# Altium schematic symbol library Inductors-Wirewound.SchLib: 5 symbols
Pins are listed as number, name and electrical type; pins without a type are passive.

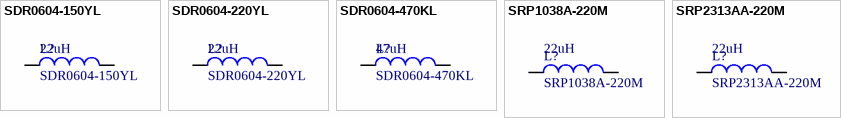
[diagram p0: symbols SDR0604-150YL to SRP2313AA-220M]

## SDR0604-150YL
designator L?  value 22uH
15uH 30% 1.3A 0604; Manufacturer: Bourns; PartNumber: SDR0604-150YL; PackageReference: SDR0604; Mounting Technology: Surface Mount; Current: 1.3A
simulation model INDUCTOR (Inductor)
signal-integrity model Inductor
footprint SDR0604
pins: 1, 2

## SDR0604-220YL
designator L?  value 22uH
22uH 30% 1.1A 0604; Manufacturer: Bourns; PartNumber: SDR0604-220YL; PackageReference: SDR0604; Mounting Technology: Surface Mount; Current: 1.1A
simulation model INDUCTOR (Inductor)
signal-integrity model Inductor
footprint SDR0604
pins: 1, 2

## SDR0604-470KL
designator L?  value 47uH
47uH 10% 0.72A 0604; Manufacturer: Bourns; PartNumber: SDR0604-470KL; PackageReference: SDR0604; Mounting Technology: Surface Mount; Current: 0.72A
simulation model INDUCTOR (Inductor)
signal-integrity model Inductor
footprint SDR0604
pins: 1, 2

## SRP1038A-220M
designator L?  value 22uH
22uH 20% 7A 1038; Manufacturer: Bourns; PartNumber: SRP1038A-220M; Mounting Technology: Surface Mount; PackageReference: SRP1038A; Current: 7A
simulation model INDUCTOR (Inductor)
signal-integrity model Inductor
footprint SRP1038A
pins: 1, 2

## SRP2313AA-220M
designator L?  value 22uH
22uH 20% 18A 2313; Manufacturer: Bourns; PartNumber: SRP2313AA-220M; Mounting Technology: Surface Mount; PackageReference: SR2313AA; Current: 18A
simulation model INDUCTOR (Inductor)
signal-integrity model Inductor
footprint SRT2313AA
pins: 1, 2